# Altium footprint library SO.PcbLib: 3 footprints
Each footprint in its own frame and in the unit in brackets; x right, y up, seen from the top. Pads: shape width x height; smd on the part's side, far side on the other; paste and mask are expansions set on the pad; w line width, h text height; cw(c..) or ccw(c..) is an arc to the next point about the centre after c.
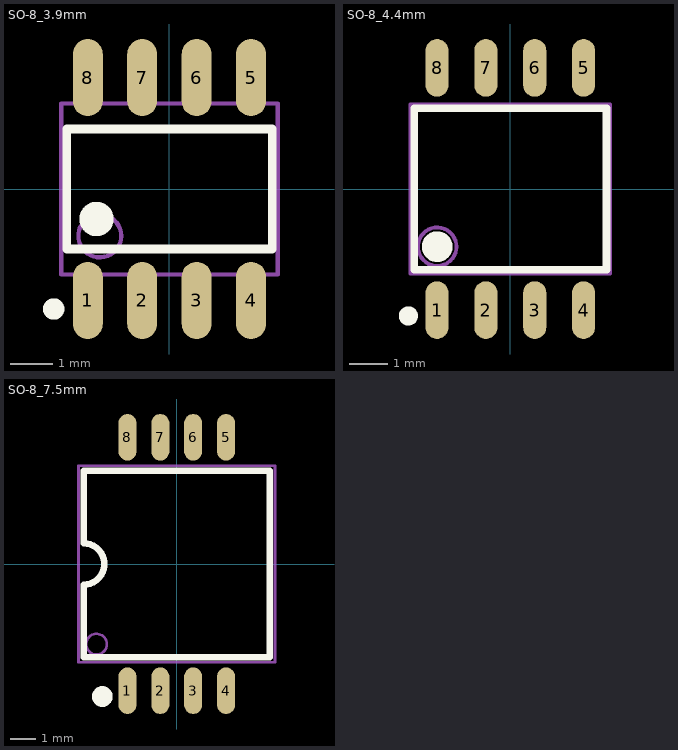
[diagram p0: the footprints below, top view; thin cyan lines are the x and y axes]

## SO-8_3.9mm [mm]
pads (8):
  oval 0.7x1.8 smd: 1(-1.905,-2.6) 2(-0.635,-2.6) 3(0.635,-2.6) 4(1.905,-2.6) 5(1.905,2.6) 6(0.635,2.6) 7(-0.635,2.6) 8(-1.905,2.6)
Top Overlay:
  circle w0.25: c-2.7,-2.8 r0.125
  circle w0.4: c-1.7,-0.7 r0.2
  lines w0.2: -2.4,-1.4 -2.4,1.4 2.4,1.4 2.4,-1.4 -2.4,-1.4
Mechanical 13:
  circle w0.1: c-1.625,-1.095 r0.5
  lines w0.1: -2.525,-1.995 -2.525,1.995 2.525,1.995 2.525,-1.995 -2.525,-1.995

## SO-8_4.4mm [mm]
pads (8):
  oval 0.6x1.5 smd: 1(-1.905,-3.15) 2(-0.635,-3.15) 3(0.635,-3.15) 4(1.905,-3.15) 5(1.905,3.15) 6(0.635,3.15) 7(-0.635,3.15) 8(-1.905,3.15)
Top Overlay:
  circle w0.25: c-2.65,-3.3 r0.125
  circle w0.4: c-1.9,-1.5 r0.2
  lines w0.2: -2.5,-2.1 -2.5,2.1 2.5,2.1 2.5,-2.1 -2.5,-2.1
Mechanical 13:
  circle w0.1: c-1.9,-1.5 r0.5
  lines w0.1: -2.6,-2.2 -2.6,2.2 2.6,2.2 2.6,-2.2 -2.6,-2.2

## SO-8_7.5mm [mm]
pads (8):
  oval 0.7x1.8 smd: 1(-1.905,-4.9) 2(-0.635,-4.9) 3(0.635,-4.9) 4(1.905,-4.9) 5(1.905,4.9) 6(0.635,4.9) 7(-0.635,4.9) 8(-1.905,4.9)
Top Overlay:
  circle w0.4: c-2.875,-5.125 r0.2
  lines w0.254: -3.6,-3.6 -3.6,-0.8 ccw(c-3.6,0) -3.6,0.8 -3.6,3.6 3.6,3.6 3.6,-3.6 -3.6,-3.6
Mechanical 13:
  circle w0.1: c-3.1,-3.1 r0.4
  lines w0.1: -3.8,-3.8 -3.8,3.8 3.8,3.8 3.8,-3.8 -3.8,-3.8